# EAGLE library part 30306-6002HB (library 3M15451-ND)
Conn Shrouded Header HDR 6 POS 2.54mm Solder ST Thru-Hole
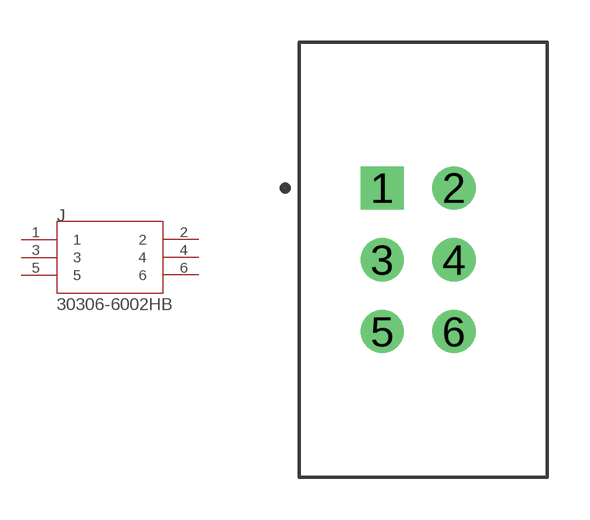
[diagram p0: symbol with the pads of 3M_30306-6002HB; footprint 3M_30306-6002HB]

Designator prefix J

## 30306-6002HB (Description: Conn Shrouded Header HDR 6 POS 2.54mm Solder ST Thru-Hole; Digi-Key_Part_Number: 3M15451-ND; Digi-Key_Purchase_URL: https://www.digikey.com/product-detail/en/3m/30306-6002HB/3M15451-ND/1237391?utm_source=snapeda&utm_medium=aggregator&utm_campaign=symbol; MF: 3M; MP: 30306-6002HB; Package: None)  [3M_30306-6002HB]
1  1  pas
2  2  pas
3  3  pas
4  4  pas
5  5  pas
6  6  pas

## Footprint 3M_30306-6002HB (pad centres in mm)
drill 1.02 pad 1.52 square: 1 0,0
drill 1.02 pad 1.52: 2 2.54,0; 3 0,-2.54; 4 2.54,-2.54; 5 0,-5.08; 6 2.54,-5.08